# Altium schematic symbol library Proyecto_Rovertito.SCHLIB: 2 symbols
Pins are listed as number, name and electrical type; pins without a type are passive.

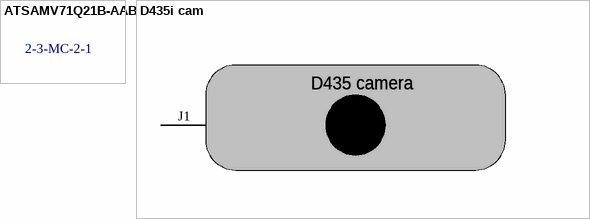
[diagram p0: symbols ATSAMV71Q21B-AAB to D435i cam]

## ATSAMV71Q21B-AAB
designator 2-3-MC-2-1  (value not drawn)
Automotive SAMV71; Manufacturer: Microchip; HelpURL: https://www.microchip.com/en-us/product/ATSAMV71Q21; Mass: *; Power Consumption: *; Power Dissipation: *

## D435i cam
designator 2-5-CM-1-1  (value not drawn)
D435 Intel Camera; J1 Pin: USB-C; Manufacturer: Intel; HelpURL: https://drive.google.com/drive/u/2/folders/1aaQb8lEUq7XeeHneAeicmpOVJ9xfYgF8; Mass: *; Power Consumption: *; Power Dissipation: *
pins: J1
text: D435 camera